# Altium footprint library Semiconductor.PcbLib: 1 footprints
Each footprint in its own frame and in the unit in brackets; x right, y up, seen from the top. Pads: shape width x height; smd on the part's side, far side on the other; paste and mask are expansions set on the pad; w line width, h text height; cw(c..) or ccw(c..) is an arc to the next point about the centre after c.
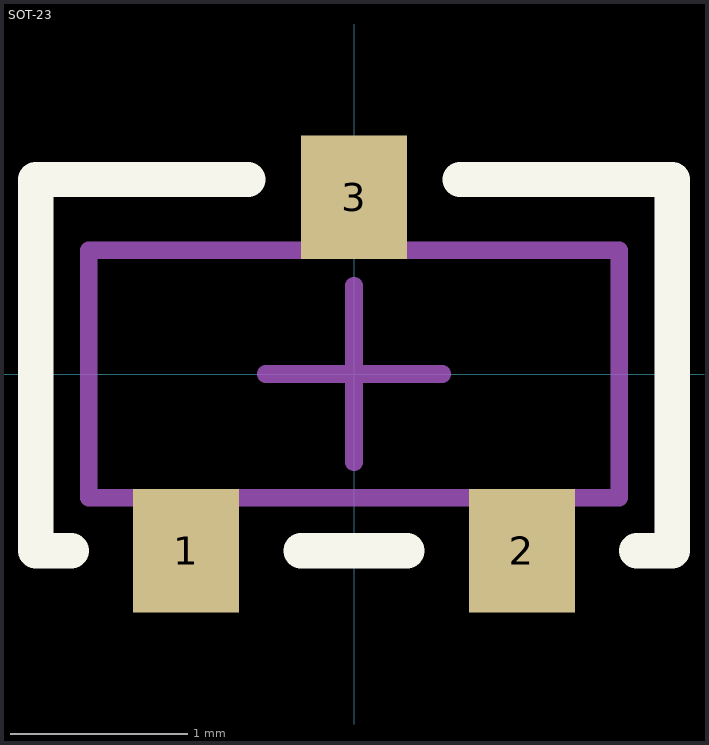
[diagram p0: the footprint, top view; thin cyan lines are the x and y axes]

## SOT-23 [mm]
height 2.5
pads (3):
  rect 0.6x0.7 smd: 1(-0.95,-1) 2(0.95,-1) 3(0,1)
Top Overlay:
  lines w0.2: -1.6,-1 -1.8,-1 -1.8,1.1 -0.6,1.1 ; -0.3,-1 0.3,-1 ; 0.6,1.1 1.8,1.1 1.8,-1 1.6,-1
ReperDotTop:
  lines w0.1: -0.5,0 0.5,0 ; 0,-0.5 0,0.5
AssemblyOutlineTop:
  lines w0.1: -1.5,-0.7 1.5,-0.7 1.5,0.7 -1.5,0.7 -1.5,-0.7
  text "'.Designator'" at 0,0 h2.5
3D body "CircuitWorks-SOT-23.step": height 1.15, standoff 0.05, extent -1.5,-1.25 1.5,1.25